# Altium footprint library MULTIPIN_BGA.PcbLib: 1 footprints
Each footprint in its own frame and in the unit in brackets; x right, y up, seen from the top. Pads: shape width x height; smd on the part's side, far side on the other; paste and mask are expansions set on the pad; w line width, h text height; cw(c..) or ccw(c..) is an arc to the next point about the centre after c.
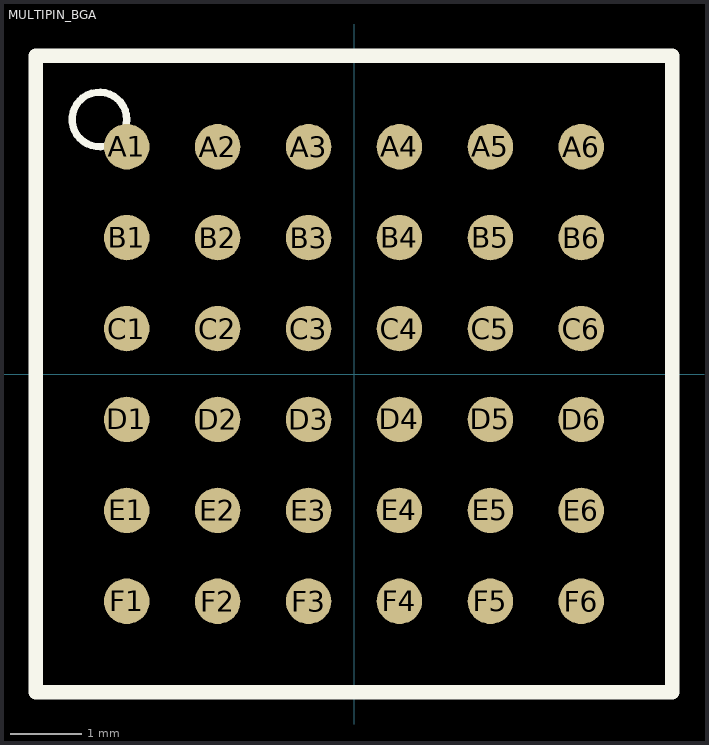
[diagram p0: the footprint, top view; thin cyan lines are the x and y axes]

## MULTIPIN_BGA [mil] "6x6 BGA style footprint"
pads (36):
  round 25 smd: A1(-125,125) A2(-75,125) A3(-25,125) A4(25,125) A5(75,125) A6(125,125) B1(-125,75) B2(-75,75) B3(-25,75) B4(25,75) B5(75,75) B6(125,75) C1(-125,25) C2(-75,25) C3(-25,25) C4(25,25) C5(75,25) C6(125,25) D1(-125,-25) D2(-75,-25) D3(-25,-25) D4(25,-25) D5(75,-25) D6(125,-25) E1(-125,-75) E2(-75,-75) E3(-25,-75) E4(25,-75) E5(75,-75) E6(125,-75) F1(-125,-125) F2(-75,-125) F3(-25,-125) F4(25,-125) F5(75,-125) F6(125,-125)
Top Overlay:
  circle w4: c-140,140 r15
  lines w8: -175,-175 -175,175 175,175 175,-175 -175,-175